# Altium integrated library Gymbal.IntLib: 45 symbols
Pins are listed as number, name and electrical type; pins without a type are passive.

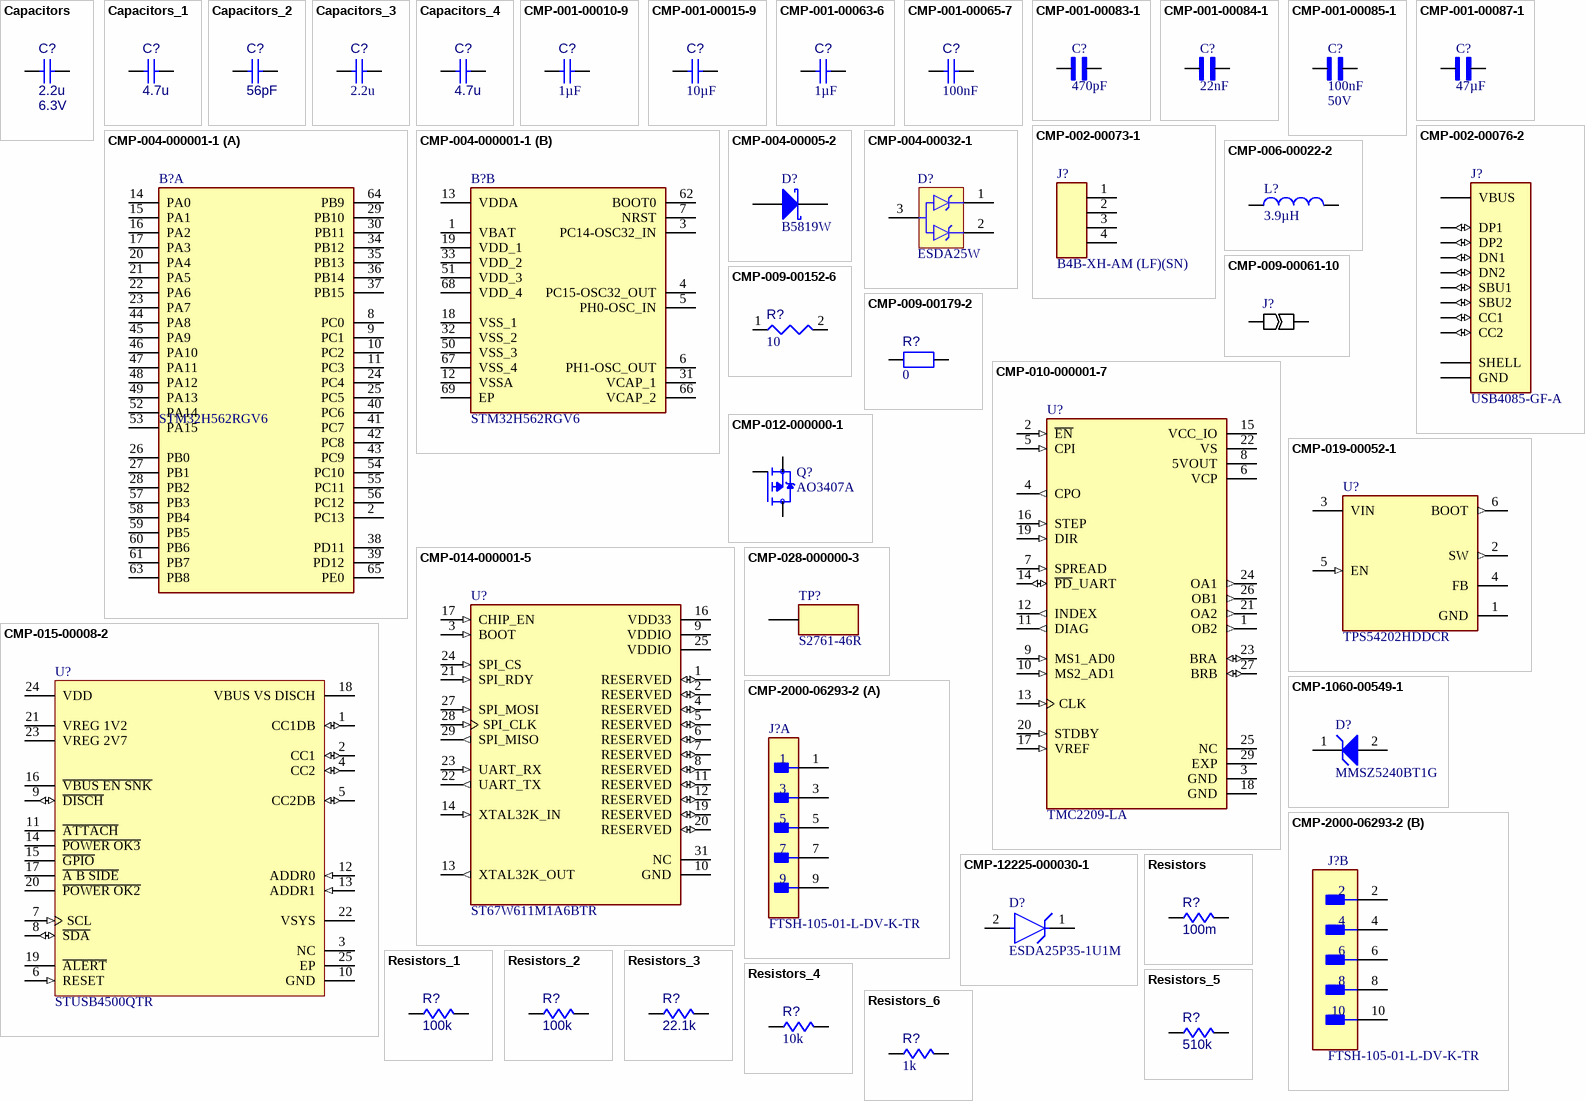
[diagram p0: symbols Capacitors to Resistors_6]

## Capacitors
designator C?, comment value 2.2u  Voltage Rating: 6.3V  (hidden comment: Capacitors,2.2u,6.3V)
Capacitor, Decoupling; Component Type: Capacitors
footprint CAPC0603(1608)100_L (Model Description)
pins: 1, 2

## Capacitors_1
designator C?, comment value 4.7u  (hidden comment: Capacitors,0805,4.7u)
Capacitor, Decoupling; Case/Package: 0805; Component Type: Capacitors
footprint CAPC0805(2012)145_L (Model Description)
pins: 1, 2

## Capacitors_2
designator C?, comment value 56pF  (hidden comment: Capacitors,ceramic,0402,5%,56pF)
Capacitor, Filter; Case/Package: 0402; Capacitor Type: ceramic; Tolerance: 5%; Component Type: Capacitors
footprint CAPC0402(1005)60_L (Model Description)
pins: 1, 2

## Capacitors_3
designator C?, comment value 2.2u  (hidden comment: Capacitors,0805,2.2u)
Capacitor, Charge Pump; Case/Package: 0805; Component Type: Capacitors
footprint CAPC0805(2012)145_L (Model Description)
pins: 1, 2

## Capacitors_4
designator C?, comment value 4.7u  (hidden comment: Capacitors,0805,4.7u,50V)
Capacitor; Case/Package: 0805; Voltage Rating: 50V; Component Type: Capacitors
footprint CAPC0805(2012)145_L (Model Description)
pins: 1, 2

## CMP-001-00010-9
designator C?, comment value 1µF  (hidden comment: Capacitor 1 uF +/- 10% 25 V 0805)
Chip Capacitor, 1 uF, +/-10%, 25 V, 0805 (2012 Metric); Manufacturer: Yageo Group; Manufacturer Part Number: CC0805KKX7R8BB105; Manufacturer: Kyocera / AVX; Manufacturer Part Number: 08053C105KAZ2A; Manufacturer: Murata; Manufacturer Part Number: GRM21BR71E105KA99L; Capacitor Type: Ceramic; Voltage Rating: 25V; Mounting Technology: SM; Case/Package: 0805; Pins: 2; RoHS Compliant: True; Min Operating Temperature: -55°C; Max Operating Temperature: 125°C; Tolerance: 10%; Component Type: Capacitors
footprint CAPC2013X145X50ML20T25 (Chip Capacitor, 2-Leads, Body 2.2x1.45mm, IPC Low Density)
footprint CAPC2013X145X50LL20T25 (Chip Capacitor, 2-Leads, Body 2.2x1.45mm, IPC High Density)
footprint CAPC2013X145X50NL20T25 (Chip Capacitor, 2-Leads, Body 2.2x1.45mm, IPC Medium Density)
pins: 1, 2

## CMP-001-00015-9
designator C?, comment value 10µF  (hidden comment: Capacitor 10 uF +/- 10% 16 V 0805)
Chip Capacitor, 10 uF, +/- 10%, 16 V, 0805 (2012 Metric); Manufacturer: Yageo Group; Manufacturer Part Number: C0805C106K4PACTU; Manufacturer: KYOCERA AVX; Manufacturer Part Number: 0805YD106KAT2A; Manufacturer: Murata; Manufacturer Part Number: GRM21BR61C106KE15L; Capacitor Type: Ceramic; Voltage Rating: 16V; Mounting Technology: SM; Case/Package: 0805; Pins: 2; RoHS Compliant: True; Min Operating Temperature: -55°C; Max Operating Temperature: 85°C; Tolerance: 10%; Component Type: Capacitors
footprint CAPC2013X135X45NL10T25 (Chip Capacitor, 2-Leads, Body 2.10x1.35mm, IPC Medium Density)
footprint CAPC2013X135X45LL10T25 (Chip Capacitor, 2-Leads, Body 2.10x1.35mm, IPC High Density)
footprint CAPC2013X135X45ML10T25 (Chip Capacitor, 2-Leads, Body 2.10x1.35mm, IPC Low Density)
pins: 1, 2

## CMP-001-00063-6
designator C?, comment value 1µF  (hidden comment: Capacitor 1µF +/-20% 10V 0402)
Chip Capacitor, 1µF +/-20%, 10V, 0402, Thickness 0.6 mm; Manufacturer: KYOCERA AVX; Manufacturer Part Number: 0402ZD105KAT2A; Manufacturer: Yageo Group; Manufacturer Part Number: C0402C105K8PACTU; Manufacturer Part Number: CC0402KRX5R6BB105; Manufacturer: TDK; Manufacturer Part Number: C1005X5R1A105K050BB; Manufacturer Part Number: C1005X6S1A105K; Manufacturer Part Number: C0402C105K8PAC; Tolerance: 10%; Pins: 2; Mounting Technology: SMT; Case/Package: 0402; Max Operating Temperature: 85°C; Voltage Rating: 10V; Min Operating Temperature: -55°C; Component Type: Capacitors
footprint CAPC0402(1005)60_L (Chip Capacitor, Body 1.0x0.5mm, Height 0.6mm, IPC High Density)
pins: 1, 2

## CMP-001-00065-7
designator C?, comment value 100nF  (hidden comment: Capacitor 100nF +/-20% 25V 0402)
Chip Capacitor, 100nF +/-20%, 25V, 0402, Thickness 0.6 mm; Manufacturer: TDK; Manufacturer Part Number: CGA2B3X7R1E104K050BB; Manufacturer: KYOCERA AVX; Manufacturer Part Number: 04023D104KAT2A; Manufacturer: Samsung Electro-Mechanics; Manufacturer Part Number: CL05A104KA5NNNC; Manufacturer: Yageo Group; Manufacturer Part Number: CC0402KRX5R8BB104; Tolerance: 10%; Mounting Technology: SMT; Case/Package: 0402; Pins: 2; Min Operating Temperature: -55°C; Max Operating Temperature: 85°C; Voltage Rating: 25V; Component Type: Capacitors
footprint CAPC0402(1005)60_L (Chip Capacitor, Body 1.0x0.5mm, Height 0.6mm, IPC High Density)
pins: 1, 2

## CMP-001-00083-1
designator C?, comment value 470pF  (hidden comment: GRM1885C2A471JA01D)
SMD Capacitor C0G(EIA) with Capacitance: 470pF Tol. 5%. Rated Voltage: 100Vdc; MF: Murata Electronics; Case/Package: 1608 Murata; Pins: 2; Component Type: Standard; Source: GRM1885C2A471JA01D.SchLib; MP: GRM1885C2A471JA01D; SnapEDA_Link: https://www.snapeda.com/parts/GRM1885C2A471JA01D/Murata+Electronics+North+America/view-part/?ref=snap; Check_prices: https://www.snapeda.com/parts/GRM1885C2A471JA01D/Murata+Electronics+North+America/view-part/?ref=eda; Design Item ID: GRM1885C2A471JA01D; Component Type: Capacitors
footprint CAPC1608X90N
pins: 1, 2

## CMP-001-00084-1
designator C?, comment value 22nF  (hidden comment: C0402C223K5REC7411)
0.022 ÂµF Â±10% 50V Ceramic Capacitor X7R 0402 (1005 Metric); MF: KEMET; Case/Package: 1005 KEMET; Pins: 2; Component Type: Standard; Source: C0402C223K5REC7411.SchLib; SnapEDA_Link: https://www.snapeda.com/parts/C0402C223K5REC7411/KEMET/view-part/?ref=snap; MP: C0402C223K5REC7411; Design Item ID: C0402C223K5REC7411; Check_prices: https://www.snapeda.com/parts/C0402C223K5REC7411/KEMET/view-part/?ref=eda; Component Type: Capacitors
footprint CAPC1005X55N
pins: 1, 2

## CMP-001-00085-1
designator C?, comment value 100nF  Voltage Rating: 50V  (hidden comment: GCM188L81H104KA57D)
SMD capacitor X8L(MURATA) with capacitance 0.10uF Tol.10%. Rated voltage 50Vdc 150C; MF: Murata Electronics; Pins: 2; Component Type: Standard; Check_prices: https://www.snapeda.com/parts/GCM188L81H104KA57D/Murata+Electronics+North+America/view-part/?ref=eda; Source: GCM188L81H104KA57D.SchLib; MP: GCM188L81H104KA57D; Design Item ID: GCM188L81H104KA57D; SnapEDA_Link: https://www.snapeda.com/parts/GCM188L81H104KA57D/Murata+Electronics+North+America/view-part/?ref=snap; Component Type: Capacitors
footprint CAPC1608X90N
pins: 1, 2

## CMP-001-00087-1
designator C?, comment value 47µF  (hidden comment: GRM32ER61C476KE15L)
SMD Capacitor X5R(EIA) with Capacitance: 47uF Tol. 10%. Rated Voltage: 16Vdc; MF: Murata Electronics; Case/Package: 3225 Murata; Pins: 2; Component Type: Standard; Source: GRM32ER61C476KE15L.SchLib; SnapEDA_Link: https://www.snapeda.com/parts/GRM32ER61C476KE15L/Murata+Electronics+North+America/view-part/?ref=snap; Design Item ID: GRM32ER61C476KE15L; MP: GRM32ER61C476KE15L; Check_prices: https://www.snapeda.com/parts/GRM32ER61C476KE15L/Murata+Electronics+North+America/view-part/?ref=eda; Component Type: Capacitors
footprint CAPC3225X270N
pins: 1, 2

## CMP-002-00073-1
designator J?, comment B4B-XH-AM (LF)(SN)
CONN HEADER VERT 4POS 2.5MM / Connector Header Through Hole 4 position 0.098" (2.50mm); Manufacturer: JST; Number of Positions: 4; Connector Type: Male Pin; Pitch: 2.4892mm; Insulation Resistance: 1GΩ; Contact Resistance: 20mΩ; Ratings: TUV; Current Rating: 3A; Gender: Male; Voltage Rating: 250V; Termination: Solder; Orientation: Straight; Mounting Technology: Through Hole; Min Operating Temperature: -25°C; Terminal Pitch: 2.5mm; Housing Material: Polyamide; Max Operating Temperature: 85°C; Depth: 5.75mm; Lead Free: Lead Free; Length: 12.4mm; Harmonized Tariff Schedule (HTS) Code: 8536.69.40.40; Housing Color: White; RoHS: Compliant; Fastening Type: Detent; Color: Green; Introduction Date: 2010-11-30; Packaging: Box; Contact Material: Brass; Number of Contacts: 4; Export Control Classification Number (ECCN) Code: EAR99; Height: 7mm; Contact Plating: Tin; Insulation Color: White; Max Current Rating: 3A; Lifecycle Status: Production; Pins: 4; Max Voltage Rating (AC): 250V; Number of Rows: 1; REACH SVHC: Yes; Manufacturer Part Number: B4B-XH-AM (LF)(SN); Component Type: Connectors
footprint FP-B4B-XH-AM_LF_SN-MFG
pins: 1, 2, 3, 4

## CMP-002-00076-2
designator J?, comment USB4085-GF-A
USB-C (USB TYPE-C) USB 2.0 æ’åº§è¿žæŽ¥å™¨ 24 (16+8 Dummy) ä½é€šå­”ã€ç›´è§’ã€ä½Žæˆæœ¬ã€3.46mm å¤–å½¢ã€16 é’ˆã€æ°´å¹³ã€é¡¶éƒ¨å®‰è£…; MF: Global Connector Technology; Value: *; Check_prices: https://www.snapeda.com/parts/USB4085-GF-A/Global+Connector+Technology/view-part/?ref=eda; Package: None; Source: USB4085-GF-A_REVB.SchLib; Design Item ID: USB4085-GF-A_REVB; SnapEDA_Link: https://www.snapeda.com/parts/USB4085-GF-A/Global+Connector+Technology/view-part/?ref=snap; Pin Count: 20; Component Type: Standard; MP: USB4085-GF-A; Component Type: Connectors
footprint GCT_USB4085-GF-A_REVB
pins: A1 GND (power), A4 VBUS (power), A5 CC1 (io), A6 DP1 (io), A7 DN1 (io), A8 SBU1 (io), A9 VBUS (power), A12 GND (power), B1 GND (power), B4 VBUS (power), B5 CC2 (io), B6 DP2 (io), B7 DN2 (io), B8 SBU2 (io), B9 VBUS (power), B12 GND (power), S1 SHELL, S2 SHELL, S3 SHELL, S4 SHELL

## CMP-004-000001-1
designator B?, comment STM32H562RGV6
MCU 32-bit ARM Cortex M33 RISC 1MB Flash 1.8V/2.5V/3.3V 68-Pin VFQFPN EP Tray; Manufacturer_Name: STMicroelectronics; Manufacturer_Part_Number: STM32H563RGV6; Geometry.Height: 1mm; Core Architecture: ARM Cortex-M33; Datasheet Link: https://www.st.com/resource/en/datasheet/stm32h562ag.pdf; Mouser Price/Stock: https://www.mouser.co.uk/ProductDetail/STMicroelectronics/STM32H563RGV6?qs=Jm2GQyTW%2FbjkEO3Um3%252BxKg%3D%3D; Mouser Part Number: 511-STM32H563RGV6; Design Item ID: STM32H563RGV6; Source: STM32H563RGV6.SchLib; Memory Format: FLASH; REACH SVHC: Yes; Lifecycle Status: Production; Pins: 68; China RoHS: Compliant; RoHS: Compliant; Manufacturer: STMicroelectronics; Manufacturer Part Number: STM32H562RGV6; Component Type: Processors
footprint QFN40P800X800X100-69N-D
part A pins: 2 PC13, 8 PC0, 9 PC1, 10 PC2, 11 PC3, 14 PA0, 15 PA1, 16 PA2, 17 PA3, 20 PA4, 21 PA5, 22 PA6, 23 PA7, 24 PC4, 25 PC5, 26 PB0, 27 PB1, 28 PB2, 29 PB10, 30 PB11, 34 PB12, 35 PB13, 36 PB14, 37 PB15, 38 PD11, 39 PD12, 40 PC6, 41 PC7, 42 PC8, 43 PC9, 44 PA8, 45 PA9, 46 PA10, 47 PA11, 48 PA12, 49 PA13, 52 PA14, 53 PA15, 54 PC10, 55 PC11, 56 PC12, 57 PB3, 58 PB4, 59 PB5, 60 PB6, 61 PB7, 63 PB8, 64 PB9, 65 PE0
part B pins: 1 VBAT, 3 PC14-OSC32_IN, 4 PC15-OSC32_OUT, 5 PH0-OSC_IN, 6 PH1-OSC_OUT, 7 NRST, 12 VSSA, 13 VDDA, 18 VSS_1, 19 VDD_1, 31 VCAP_1, 32 VSS_2, 33 VDD_2, 50 VSS_3, 51 VDD_3, 62 BOOT0, 66 VCAP_2, 67 VSS_4, 68 VDD_4, 69 EP

## CMP-004-00005-2
designator D?, comment B5819W
Schottky Barrier Rectifier, 40 V, 1 A, -65 to 125 degC, 2-Pin SOD123, RoHS, Tape and Reel; Manufacturer: Micro Commercial Components; Manufacturer: MCC; Manufacturer Part Number: B5819W-TP; Datasheet Version: Rev. B, 01/2013; RoHS Compliant: Unknown; Manufacturer URL: http://www.mccsemi.com/; Package URL: http://www.mccsemi.com/up_pdf/1N4448W(SOD-123).pdf; Case/Package: SOD123; Mounting Technology: SM; Datasheet URL: http://www.mccsemi.com/up_pdf/B5817W-B5819W(SOD-123).pdf; Package Description: 2-Pin Small Outline Diode, Body 2.7 x 1.6 mm, Height 1.35 mm; Package Reference: SOD123; Component Type: Diodes
footprint MCC-SOD123_V (SOD123, 2-Leads, Body 2.7x1.6mm, Height 1.35mm)
pins: 1 A, 2 K

## CMP-004-00032-1
designator D?, comment ESDA25W
25V 400W 25V 24V SOT-323-3L ESD and Surge Protection (TVS/ESD) ROHS; Manufacturer: STMicroelectronics; ESD Protection: Yes; Max Reverse Leakage Current: 1µA; Number of Channels: 2; Direction: Unidirectional; Breakdown Voltage: 27.5V; Max Junction Temperature (Tj): 125°C; Element Configuration: Common Anode; Power Rating: 150W; Forward Voltage: 1.2V; Max Breakdown Voltage: 30V; Power Line Protection: No; Value: 65pF; Test Current: 1mA; Length: 2mm; Lead Free: Lead Free; Reverse Standoff Voltage: 24V; Peak Pulse Power: 400W; Harmonized Tariff Schedule (HTS) Code: 8541.10.00.50; Height: 1.1mm; Schedule B: 8536300000, 8536300000; Min Breakdown Voltage: 25V; Width: 1.25mm; Termination: SMD/SMT; Max Power Dissipation: 400W; Working Voltage: 24V; Number of Elements: 2; Leakage Current: 1µA; Export Control Classification Number (ECCN) Code: EAR99; Pins: 3; Introduction Date: 1980-01-04; Case/Package: SOT-323; Radiation Hardening: No; Reverse Breakdown Voltage: 25V; Mounting Technology: Surface Mount; Operating Supply Voltage: 1.2V; Number of Terminals: 3; REACH SVHC: Yes; Polarity: Unidirectional; Depth: 1.25mm; Number of Unidirectional Channels: 2; Lifecycle Status: Production; RoHS: Compliant; Country of Origin: Mainland China; Peak Reverse Current: 1µA; Composition: Zener; Max Operating Temperature: 125°C; China RoHS: Compliant; Min Operating Temperature: -40°C; Voltage Rating (DC): 25V; Manufacturer Part Number: ESDA25W; Component Type: Diodes
footprint FP-SOT323-3L-IPC_C
pins: 1 1 CATHODE, 2 2 CATHODE, 3 COMMON ANODE

## CMP-006-00022-2
designator L?, comment value 3.9µH  (hidden comment: SRR5018-3R9Y)
Inductor Power Shielded Wirewound 3.9uH 30% 100KHz 8Q-Factor Ferrite 2A 0.055Ohm DCR T/R; Manufacturer: Bourns; DC Resistance (DCR): 55mΩ; Max Current Rating: 2.1A; Self Resonant Frequency: 64MHz; Q Factor: 8; Number of Circuits: 1; Harmonized Tariff Schedule (HTS) Code: 8504.50.80.00; Schedule B: 8504500000, 8504500000; Case Code (Imperial): 2323; Lifecycle Status: Production; Number of Terminals: 2; Height - Seated (Max): 1.8034mm; Termination: SMD/SMT; RoHS: Compliant; Depth: 6.1mm; Max DC Current: 2A; Tolerance: 30%; Min Operating Temperature: -40°C; Country of Origin: Mainland China; Export Control Classification Number (ECCN) Code: EAR99; Composition: Wirewound; Max Operating Temperature: 125°C; Military Standard: Not; Packaging: Tape and Reel; Test Frequency: 100kHz; Case Code (Metric): 5858; Introduction Date: 2007-08-29; Width: 5.8mm; Core Material: Ferrite; Shielding: Shielded; DC Current: 2A; Current Rating: 2A; Mounting Technology: Surface Mount; China RoHS: Compliant; Case/Package: 2323; Saturation Current: 2.1A; REACH SVHC: Yes; Length: 5.8mm; Height: 1.8mm; Manufacturer Part Number: SRR5018-3R9Y; Component Type: Inductors
footprint SRR5018-3R9Y-Footprint-1
pins: 1, 2

## CMP-009-00061-10
designator J?, comment JUMPER  (value not drawn)
Pins: 2; Component Type: Resistors
footprint JUMPER
pins: 1, 2

## CMP-009-00152-6
designator R?, comment value 10  (hidden comment: Resistor 10R  +/-1 % 0402 63 mW)
Chip Resistor, 10 Ohms, +/-1 %, 63 mW, -55 to 155 degC, 0402; Manufacturer: Panasonic; Manufacturer Part Number: ERJ-2RKF10R0X; Manufacturer: Yageo Group; Manufacturer Part Number: RC0402FR-0710RL; Manufacturer: Vishay; Manufacturer Part Number: CRCW040210R0FKEE; Manufacturer Part Number: CRCW040210R0FKTD; Manufacturer Part Number: CRCW040210R0FKED; Manufacturer: Bourns; Manufacturer Part Number: CR0402-FX-10R0GLF; Tolerance: 1%; Power: 63mW; Case/Package: 0402; Min Operating Temperature: -55°C; Max Operating Temperature: 155°C; Pins: 2; Component Type: Resistors
footprint RESC0402(1005)_L (Chip Resistor, Body 1.0x0.5mm, IPC High Density)
pins: 1, 2
1 alternate drawing of the same symbol

## CMP-009-00179-2
designator R?, comment value 0  (hidden comment: HCJ0805ZT0R00)
HCJ Series 0805 Jumper Surface Mount Chip Resistor; Manufacturer Package Identifier: 0805 (2012 metric); Manufacturer: Stackpole Electronics; Power Rating: 500mW; DNP: TRUE; Mounting Technology: Surface Mount; Case/Package: 0805; Min Operating Temperature: -55°C; Max Operating Temperature: 155°C; Number of Terminals: 2; Export Control Classification Number (ECCN) Code: EAR99; Ratings: AEC-Q200; Radiation Hardening: No; Width: 1.2mm; Number of Terminations: 2; Length: 2mm; REACH SVHC: Yes; Harmonized Tariff Schedule (HTS) Code: 8533.21.00.30; Introduction Date: 2013-09-03; Termination: Wraparound; Lead Free: Lead Free; Packaging: Cut Tape (CT); Case Code (Metric): 2012; RoHS: Compliant; Country of Origin: Taiwan; Lifecycle Status: Production; Schedule B: 8533210045, 8533210045; Case Code (Imperial): 0805; Height: 650µm; Composition: Metal Strip; Manufacturer Part Number: HCJ0805ZT0R00; Component Type: Resistors
footprint FP-HCJ0805-MFG
footprint RESC0805(2012)_L (Chip Resistor, Body 2.0x1.3mm, IPC High Density)
pins: 1, 2
1 alternate drawing of the same symbol

## CMP-010-000001-7
designator U?, comment TMC2209-LA
Bipolar Motor Driver Power MOSFET Step/Direction, UART 28-QFN (5x5); MF: Maxim Integrated Products; MP: TMC2209-LA; Design Item ID: TMC2209-LA; Value: *; Pin Count: 29; Component Type: Standard; SnapEDA_Link: https://www.snapeda.com/parts/TMC2209-LA/Maxim+Integrated/view-part/?ref=snap; Package: None; Check_prices: https://www.snapeda.com/parts/TMC2209-LA/Maxim+Integrated/view-part/?ref=eda; Source: TMC2209-LA.SchLib; Component Type: Drivers
footprint QFN50P500X500X90-29N
pins: 1 OB2 (out), 2 ~{EN} (in), 3 GND (power), 4 CPO (out), 5 CPI (in), 6 VCP (power), 7 SPREAD (in), 8 5VOUT (power), 9 MS1_AD0 (in), 10 MS2_AD1 (in), 11 DIAG (out), 12 INDEX (out), 13 CLK (in), 14 ~{PD}_UART (io), 15 VCC_IO (power), 16 STEP (in), 17 VREF (in), 18 GND (power), 19 DIR (in), 20 STDBY (in), 21 OA2 (out), 22 VS (power), 23 BRA (io), 24 OA1 (out), 25 NC, 26 OB1 (out), 27 BRB (io), 28 VS (power), 29 EXP (power)

## CMP-012-000000-1
designator Q?, comment AO3407A
P-Channel 30 V 4.3A (Ta) 1.4W (Ta) Surface Mount SOT-23-3; MF: Alpha &; Source: AO3407A.SchLib; SnapEDA_Link: https://www.snapeda.com/parts/AO3407A/Alpha/view-part/?ref=snap; Component Type: Standard; Pin Count: 3; Value: *; MP: AO3407A; Design Item ID: AO3407A; Check_prices: https://www.snapeda.com/parts/AO3407A/Alpha/view-part/?ref=eda; Package: SOT-23 Alpha &amp; Omega Semiconductor; Component Type: Transistors
footprint SOT95P280X125-3N
pins: 1 G, 2 S, 3 D

## CMP-014-000001-5
designator U?, comment ST67W611M1A6BTR
802.15.4, Bluetooth, WiFi 802.11b/g/n/ax, Bluetooth v5.4, Thread, ZigbeeÂ® Transceiver Module 2.4GHz PCB Trace Surface Mount; MF: STMicroelectronics; Package: None; Pin Count: 36; Component Type: Standard; Design Item ID: ST67W611M1A6BTR; Source: ST67W611M1A6BTR.SchLib; MP: ST67W611M1A6BTR; SnapEDA_Link: https://www.snapeda.com/parts/ST67W611M1A6BTR/STMicroelectronics/view-part/?ref=snap; Check_prices: https://www.snapeda.com/parts/ST67W611M1A6BTR/STMicroelectronics/view-part/?ref=eda; Value: *; Component Type: Wireless
footprint MODULE_ST67W611M1A6BTR
pins: 1 RESERVED (io), 2 RESERVED (io), 3 BOOT (in), 4 RESERVED (io), 5 RESERVED (io), 6 RESERVED (io), 7 RESERVED (io), 8 RESERVED (io), 9 VDDIO (power), 10 GND (power), 11 RESERVED (io), 12 RESERVED (io), 13 XTAL32K_OUT (out), 14 XTAL32K_IN (in), 15 GND (power), 16 VDD33 (power), 17 CHIP_EN (in), 18 GND (power), 19 RESERVED (io), 20 RESERVED (io), 21 SPI_RDY (in), 22 UART_TX (out), 23 UART_RX (in), 24 SPI_CS (in), 25 VDDIO (power), 26 GND (power), 27 SPI_MOSI (in), 28 SPI_CLK (in), 29 SPI_MISO (out), 30 GND (power), 31 NC, 32 GND (power), 33 GND (power), 34 GND (power), 35 GND (power), 36 GND (power)

## CMP-015-00008-2
designator U?, comment STUSB4500QTR
Super Speed USB Controller USB 1.2/USB 2.0 5V/9V/12V/15V/18V T/R 24-Pin QFN EP; Manufacturer: STMicroelectronics; Max Supply Voltage: 22V; Number of Ports: 1; USB Standard: USB 2.0; Nominal Supply Voltage (DC): 5V; Max Junction Temperature (Tj): 145°C; Interface: I2C, USB; Min Supply Voltage: 4.1V; Number of Circuits: 1; Introduction Date: 2018-04-09; Harmonized Tariff Schedule (HTS) Code: 8542.39.00.60; Height: 1mm; Height - Seated (Max): 1mm; Lifecycle Status: Production; Width: 4mm; Schedule B: 8542390000, 8542390000; Number of Channels: 1; RoHS: Compliant; Export Control Classification Number (ECCN) Code: EAR99; Length: 4mm; Country of Origin: Mainland China; Number of Terminals: 26; Terminal Pitch: 500µm; REACH SVHC: Yes; Max Operating Temperature: 105°C; Min Operating Temperature: -40°C; China RoHS: Compliant; Ambient Temperature Range High: 105°C; Manufacturer Part Number: STUSB4500QTR; Component Type: Interface
footprint FP-QFN-24-EP_4x4-MFG
pins: 1 CC1DB (io), 2 CC1 (io), 3 NC, 4 CC2 (io), 5 CC2DB (io), 6 RESET (in), 7 SCL (in), 8 ~{SDA} (io), 9 ~{DISCH} (io), 10 GND (power), 11 ~{ATTACH} (oc), 12 ADDR0 (in), 13 ADDR1 (in), 14 ~{POWER OK3} (oc), 15 ~{GPIO} (oc), 16 ~{VBUS EN SNK} (oc), 17 ~{A B SIDE} (oc), 18 VBUS VS DISCH (power), 19 ~{ALERT} (oc), 20 ~{POWER OK2} (power), 21 VREG 1V2 (power), 22 VSYS (power), 23 VREG 2V7 (power), 24 VDD (power), 25 EP (power)

## CMP-019-00052-1
designator U?, comment TPS54202HDDCR
4.5V to 28V Input, 2A Output, Synchronous Step-Down Voltage Converter 6-SOT-23-THIN -40 to 125; Manufacturer Lifecycle Status: ACTIVE; Quiescent Current: 40µA; Max Junction Temperature (Tj): 125°C; Topology: Buck; Nominal Supply Current: 45µA; Max Duty Cycle: 100%; Number of Outputs: 1; Switching Frequency: 500kHz; Max Supply Voltage: 28V; Length: 2.9mm; Lifecycle Status: Production; Max Operating Temperature: 125°C; Output Current: 2A; Thickness: 870µm; Pins: 6; RoHS: Compliant; Height: 1.1mm; Min Operating Temperature: -40°C; Width: 1.6mm; Lead Free: Lead Free; Min Supply Voltage: 4.5V; Schedule B: 8542390000, 8542390000; Component Type: Power Supply
footprint FP-DDC0006A-IPC_C
footprint FP-DDC0006A-IPC_B
footprint FP-DDC0006A-IPC_A
footprint FP-DDC0006A-MFG
pins: 1 GND (power), 2 SW (out), 3 VIN (power), 4 FB, 5 EN (in), 6 BOOT (out)

## CMP-028-000000-3
designator TP?, comment S2761-46R
MF: {'manufacturer': u'Harwin Inc.'}; Availability: Unavailable; Design Item ID: S2761-46R; MP: S2761-46R; Price: None; Pin Count: 1; Package: None; Component Type: Standard; Source: S2761-46R.SchLib; Value: *; Component Type: Test Points
footprint HARWIN_S2761-46R
pins: 1

## CMP-1060-00549-1
designator D?, comment MMSZ5240BT1G
Zener Voltage Regulator, 500 mW, 2-Pin SOD-123, Pb-Free, Tape and Reel; Manufacturer: On Semiconductor; P Max (W): 0.5; VZ Typ (V): 10; PackageVersion: Rev. G, 10/2009; ComponentLink2Description: Datasheet; RoHS: Pb-Free; ComponentLink2URL: http://www.onsemi.com/pub_link/Collateral/MMSZ5221BT1-D.PDF; PackageReference: SOD-123-2-425-04; ComponentLink1URL: http://www.onsemi.com/; ComponentLink3Description: Package Specification; ComponentLink1Description: Manufacturer URL; Packing: Tape and Reel; Mounting Technology: Surface Mount; ComponentLink3URL: http://www.onsemi.com/pub_link/Collateral/425-04.PDF; PackageDescription: 2-Pin SOD, Body 1.6 x 2.69 mm; PartNumber: MMSZ5240BT1G; DatasheetVersion: Rev. 12
footprint ONSC-SOD-123-2-425-04_V (SOD, 2-Leads, Body 2.69x1.6mm)
pins: 1 K, 2 A

## CMP-2000-06293-2
designator J?, comment FTSH-105-01-L-DV-K-TR
CONN HEADER SMD 10POS 1.27MM; Max Current Rating: 1.75A; Number of Contacts: 10; Gender: Male; Row Spacing: 0.05inch; Connector Type: Male Pin; Housing Color: Black; Min Operating Temperature: -55°C; Depth: 3.43mm; Color: Black; Contact Plating: Gold; REACH SVHC: No SVHC; Packaging: Tape and Reel; Current Rating: 1.75A; Radiation Hardening: No; Package Quantity: 550; Number of Positions: 10; Max Operating Temperature: 125°C; Orientation: Straight; Termination: Solder; Contact Mating Length: 0.12inch; Number of Rows: 2; Lead Free: Lead Free; Contact Material: Bronze; Mount: Surface Mount; Housing Material: Polymer; Pitch: 1.27mm; Length: 6.35mm
footprint FP-FTSH-105-01-L-DV-K-TR-MFG
part A pins: 1, 3, 5, 7, 9
part B pins: 2, 4, 6, 8, 10

## CMP-12225-000030-1
designator D?, comment ESDA25P35-1U1M
TVS DIODE 22V 41V 1610; Manufacturer: STMicroelectronics; Clamping Voltage: 39V; Breakdown Voltage: 23.3V; Max Junction Temp: +150°C; Peak Pulse Current: 35A; Number Of Channels: 1; Peak Pulse Power: 1400W; Standoff Height: 0.02mm; Direction: Unidirectional; ComponentLink2URL: https://www.st.com/resource/en/datasheet/esda25p35-1u1m.pdf; Height: 0.6mm; Device Class L2: TVS Diodes; Temperature: -55°C to +150°C; Category: Diode; Temperature Range Low: -55°C; Digikey Description: TVS DIODE 22V 41V 1610; Reverse Standoff Voltage: 22V; Lead Free: Yes; Automotive: No; RoHS: TRUE; Manufacturer Part Number: ESDA25P35-1U1M; Temperature Range High: +150°C; Package: QFN_1610; Device Class L1: Circuit Protection; Device Class L3: unset; ComponentLink2Description: Datasheet; Octopart: https://octopart.com/esda25p35-1u1m-stmicroelectronics-75302699; Mouser Description: ESDA Series 1400 W 25 V Uni-Directional Surface Mount TVS Diode - QFN-1610
footprint FP-QFN_1610-MFG
pins: 1 C, 2 A

## Resistors
designator R?, comment value 100m  (hidden comment: Resistors,0402,1%,100m)
Resistor; Case/Package: 0402; Tolerance: 1%; Component Type: Resistors
footprint RESC0402(1005)_L (Model Description)
pins: 1, 2
1 alternate drawing of the same symbol

## Resistors_1
designator R?, comment value 100k  (hidden comment: Resistors,0402,100k)
Resistor, Bootstrap; Case/Package: 0402; Component Type: Resistors
footprint RESC0402(1005)_L (Model Description)
pins: 1, 2
1 alternate drawing of the same symbol

## Resistors_2
designator R?, comment value 100k  (hidden comment: Resistors,0402,100k)
Resistor; Case/Package: 0402; Component Type: Resistors
footprint RESC0402(1005)_L (Model Description)
pins: 1, 2
1 alternate drawing of the same symbol

## Resistors_3
designator R?, comment value 22.1k  (hidden comment: Resistors,0402,22.1k)
Resistor; Case/Package: 0402; Component Type: Resistors
footprint RESC0402(1005)_L (Model Description)
pins: 1, 2
1 alternate drawing of the same symbol

## Resistors_4
designator R?, comment value 10k  (hidden comment: Resistors,0402,10k)
Resistor, Bootstrap; Case/Package: 0402; Component Type: Resistors
footprint RESC0402(1005)_L (Model Description)
pins: 1, 2
1 alternate drawing of the same symbol

## Resistors_5
designator R?, comment value 510k  (hidden comment: Resistors,0402,510k)
Resistor, Bootstrap; Case/Package: 0402; Component Type: Resistors
footprint RESC0402(1005)_L (Model Description)
pins: 1, 2
1 alternate drawing of the same symbol

## Resistors_6
designator R?, comment value 1k  (hidden comment: Resistors,0402,1k)
Resistor; Case/Package: 0402; Component Type: Resistors
footprint RESC0402(1005)_L (Model Description)
pins: 1, 2
1 alternate drawing of the same symbol

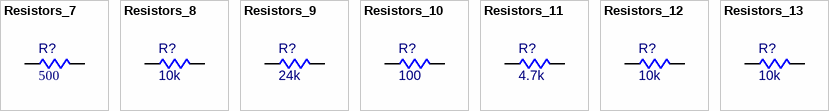
[diagram p1: symbols Resistors_7 to Resistors_13]

## Resistors_7
designator R?, comment value 500  (hidden comment: Resistors,0402,500)
Resistor; Case/Package: 0402; Component Type: Resistors
footprint RESC0402(1005)_L (Model Description)
pins: 1, 2
1 alternate drawing of the same symbol

## Resistors_8
designator R?, comment value 10k  (hidden comment: Resistors,0402,10k)
Resistor; Case/Package: 0402; Component Type: Resistors
footprint RESC0402(1005)_L (Model Description)
pins: 1, 2
1 alternate drawing of the same symbol

## Resistors_9
designator R?, comment value 24k  (hidden comment: Resistors,0402,24k)
Resistor; Case/Package: 0402; Component Type: Resistors
footprint RESC0402(1005)_L (Model Description)
pins: 1, 2
1 alternate drawing of the same symbol

## Resistors_10
designator R?, comment value 100  (hidden comment: Resistors,0402,100)
Resistor; Case/Package: 0402; Component Type: Resistors
footprint RESC0402(1005)_L (Model Description)
pins: 1, 2
1 alternate drawing of the same symbol

## Resistors_11
designator R?, comment value 4.7k  (hidden comment: Resistors,0402,4.7k)
Resistor, Pullup; Case/Package: 0402; Component Type: Resistors
footprint RESC0402(1005)_L (Model Description)
pins: 1, 2
1 alternate drawing of the same symbol

## Resistors_12
designator R?, comment value 10k  (hidden comment: Resistors,0402,10k)
Resistor, Pullup; Case/Package: 0402; Component Type: Resistors
footprint RESC0402(1005)_L (Model Description)
pins: 1, 2
1 alternate drawing of the same symbol

## Resistors_13
designator R?, comment value 10k  (hidden comment: Resistors,0402,10k)
Resistor, Pulldown; Case/Package: 0402; Component Type: Resistors
footprint RESC0402(1005)_L (Model Description)
pins: 1, 2
1 alternate drawing of the same symbol